# EAGLE library part 621X2021021 (library Board-to-Board (rev18a))
WR-PHD 1.27mm Dual SMT Pin Header H=3.80 mm, 20 Pins=>Code : Con_BTB_PHD_1.27_2_621x2021021(Packaging:x = 0: Tube x = 3: Tape & Reel with Cap) <http://katalog.we-online.de/media/thumbs2/eican/thb_Con_BTB_PHD_1.27_2_6210xx21021_pf2.jpg> 6210xx21021 Details see: http://katalog.we-online.de/en/em/621_0xx_210_21 6213xx21021 Details see: http://katalog.we-online.de/en/em/PHD_1_27_SMT_DUAL_PIN_HEADER_REEL_6213XX21021 2014 (C) Würth Elektronik
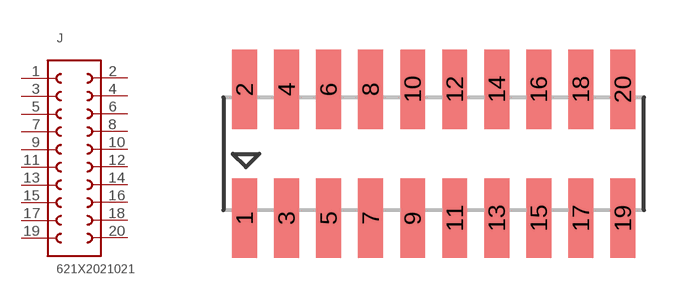
[diagram p281: symbol with the pads of 621X2021021; footprint 621X2021021]

Designator prefix J

## 621X2021021  [621X2021021]
1  1  pas
2  20  pas
3  2  pas
4  19  pas
5  3  pas
6  18  pas
7  4  pas
8  17  pas
9  5  pas
10  16  pas
11  6  pas
12  15  pas
13  7  pas
14  14  pas
15  8  pas
16  13  pas
17  9  pas
18  12  pas
19  10  pas
20  11  pas

## Footprint 621X2021021 (pad centres in mm)
WR-PHD 1.27mm Dual SMT Pin Header H=3.80 mm, 20 Pins
smd 0.75 x 2.4: 1 -5.715,-1.95; 2 -5.715,1.95; 3 -4.445,-1.95; 4 -4.445,1.95; 5 -3.175,-1.95; 6 -3.175,1.95; 7 -1.905,-1.95; 8 -1.905,1.95; 9 -0.635,-1.95; 10 -0.635,1.95; 11 0.635,-1.95; 12 0.635,1.95; 13 1.905,-1.95; 14 1.905,1.95; 15 3.175,-1.95; 16 3.175,1.95; 17 4.445,-1.95; 18 4.445,1.95; 19 5.715,-1.95; 20 5.715,1.95